# Altium schematic symbol library CONN-STD-3P_puissance.SchLib: 1 symbol
Pins are listed as number, name and electrical type; pins without a type are passive.

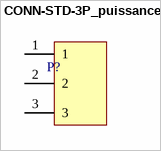
[diagram p0: symbol CONN-STD-3P_puissance]

## CONN-STD-3P_puissance
designator P?  (value not drawn)
pins: 1, 2, 3